# Altium footprint library PFET.PcbLib: 4 footprints
Each footprint in its own frame and in the unit in brackets; x right, y up, seen from the top. Pads: shape width x height; smd on the part's side, far side on the other; paste and mask are expansions set on the pad; w line width, h text height; cw(c..) or ccw(c..) is an arc to the next point about the centre after c.
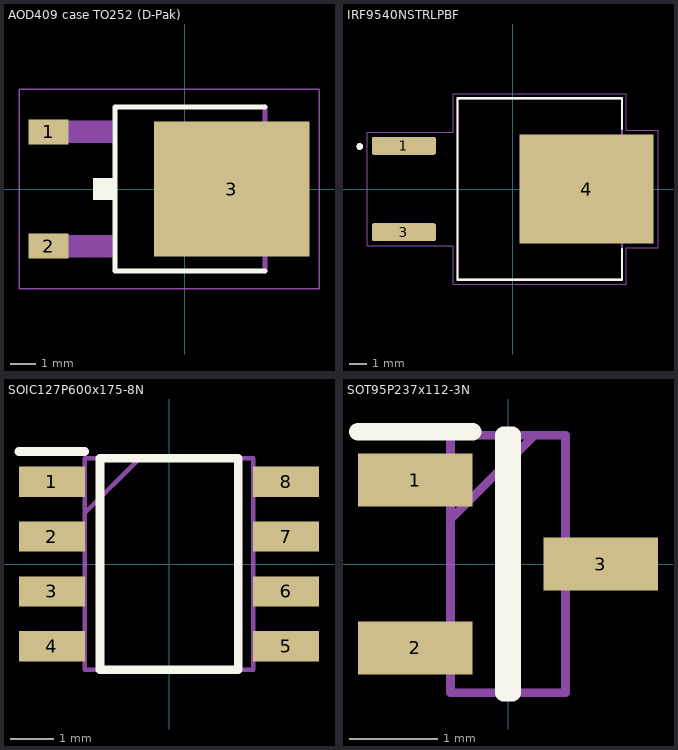
[diagram p0: the footprints below, top view; thin cyan lines are the x and y axes]

## AOD409 case TO252 (D-Pak) [mm]
pads (3):
  rect 1.6x1 smd: 1(-5.435,2.28) 2(-5.435,-2.28)
  rect 6.2x5.4 smd: 3(1.865,0)
Top Overlay:
  region: -2.896,-0.432 -3.658,-0.432 -3.658,0.432 -2.896,0.432
  lines w0.203: 3.2,-3.277 -2.794,-3.277 -2.794,3.277 3.2,3.277
Mechanical 13:
  region: -2.896,1.854 -5.791,1.854 -5.791,2.718 -2.896,2.718
  region: -2.896,-2.718 -5.791,-2.718 -5.791,-1.854 -2.896,-1.854
  region: 4.47,2.108 4.47,-2.108 4.013,-2.565 3.302,-2.565 3.302,2.565 4.013,2.565
  lines w0.203: 3.2,-3.277 3.2,3.277 ; 3.302,-2.565 4.013,-2.565 4.47,-2.108 4.47,2.108 4.013,2.565 3.302,2.565 3.302,-2.565
Mechanical 15:
  lines w0.051: -6.618,-3.973 -6.618,3.973 5.348,3.973 5.348,-3.973 -6.618,-3.973
3D body "step_temp.STEP": height 2.4, standoff -0.2, extent -5.016,-3.302 5.017,3.302

## IRF9540NSTRLPBF [mm]
pads (3):
  rrect25% 3.78x1.06 smd: 1(-6.4,2.54) 3(-6.4,-2.54)
  rect 7.88x6.39 smd paste-5: 4(4.35,0)
Top Overlay:
  circle w0.2: c-9,2.5 r0.1
  lines w0.127: 6.42,-3.52 6.42,-5.34 -3.24,-5.34 -3.24,5.34 6.42,5.34 6.42,3.52
Top Paste:
  region: 7.965,-2.545 6.645,-2.545 6.645,-0.645 7.965,-0.645
  region: 5.995,-2.545 4.675,-2.545 4.675,-0.645 5.995,-0.645
  region: 4.025,-2.545 2.705,-2.545 2.705,-0.645 4.025,-0.645
  region: 2.055,-2.545 0.735,-2.545 0.735,-0.645 2.055,-0.645
  region: 2.055,0.645 0.735,0.645 0.735,2.545 2.055,2.545
  region: 7.965,0.645 6.645,0.645 6.645,2.545 7.965,2.545
  region: 5.995,0.645 4.675,0.645 4.675,2.545 5.995,2.545
  region: 4.025,0.645 2.705,0.645 2.705,2.545 4.025,2.545
Mechanical 13:
  circle w0.2: c-9,2.5 r0.1
  lines w0.127: -3.24,-5.34 -3.24,5.34 6.42,5.34 6.42,-5.34 -3.24,-5.34
Mechanical 15:
  lines w0.05: -8.544,-3.326 -8.544,3.326 -3.49,3.326 -3.49,5.59 6.67,5.59 6.67,3.45 8.544,3.45 8.544,-3.45 6.67,-3.45 6.67,-5.59 -3.49,-5.59 -3.49,-3.326 -8.544,-3.326
3D body "step_temp.STEP": height 4.83, standoff -0.25, extent -7.62,-5.08 7.62,5.08

## SOIC127P600x175-8N [mm]
pads (8):
  rect 1.525x0.7 smd: 1(-2.712,1.905) 2(-2.712,0.635) 3(-2.712,-0.635) 4(-2.712,-1.905) 5(2.712,-1.905) 6(2.712,-0.635) 7(2.712,0.635) 8(2.712,1.905)
Top Overlay:
  lines w0.2: -3.475,2.605 -1.95,2.605 ; -1.6,-2.45 -1.6,2.45 1.6,2.45 1.6,-2.45 -1.6,-2.45
Mechanical 15:
  lines w0.1: -1.95,1.18 -0.68,2.45 ; -1.95,-2.45 -1.95,2.45 1.95,2.45 1.95,-2.45 -1.95,-2.45
3D body "IRF7416TRPBF.stp": height 1.75, standoff 0, extent -3,-2.45 3,2.45

## SOT95P237x112-3N [mm]
pads (3):
  rect 1.3x0.6 smd: 1(-1.05,0.95) 2(-1.05,-0.95) 3(1.05,0)
Top Overlay:
  lines w0.2: -1.7,1.5 -0.4,1.5 ; -0.05,-1.46 -0.05,1.46 0.05,1.46 0.05,-1.46 -0.05,-1.46
Mechanical 15:
  lines w0.1: -0.65,0.51 0.3,1.46 ; -0.65,-1.46 -0.65,1.46 0.65,1.46 0.65,-1.46 -0.65,-1.46
3D body "SOT-23_IRLML2244TRPBF_INF.step": height 1.12, standoff 0, extent -1.448,-1.524 1.194,1.524